# EAGLE library part M6260 (library pm6)
OKI engine control counter IC
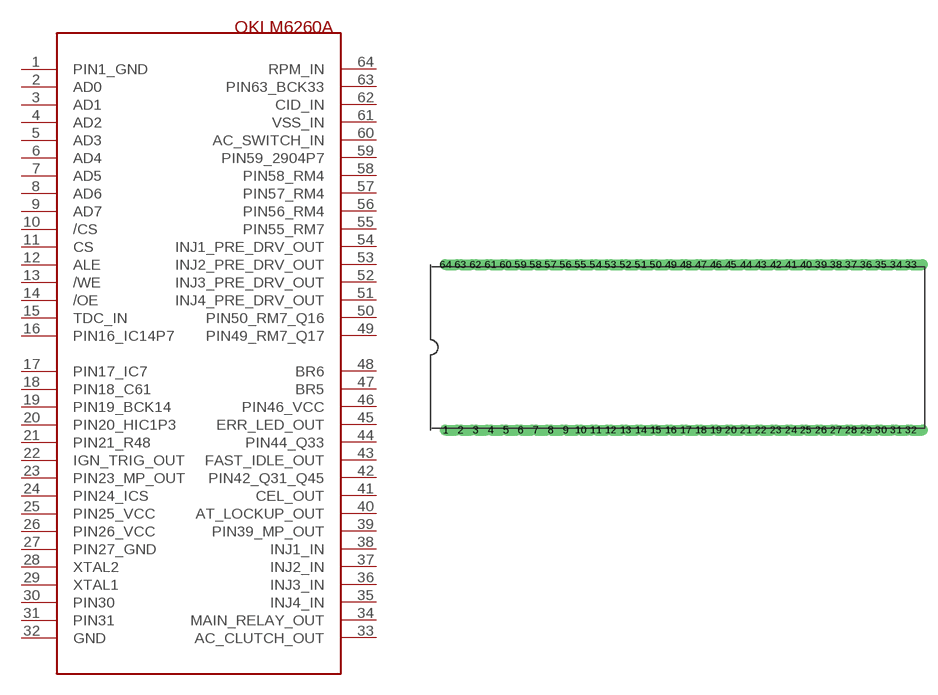
[diagram p2: symbol with the pads of C64-1; footprint C64-1]

Designator prefix -

## M6260  [C64-1]
1  PIN1_GND  pwr
2  AD0
3  AD1
4  AD2
5  AD3
6  AD4
7  AD5
8  AD6
9  AD7
10  /CS  in
11  CS  in
12  ALE  in
13  /WE  in
14  /OE  in
15  TDC_IN  in
16  PIN16_IC14P7
17  PIN17_IC7
18  PIN18_C61  in
19  PIN19_BCK14
20  PIN20_HIC1P3
21  PIN21_R48
22  IGN_TRIG_OUT  out
23  PIN23_MP_OUT  out
24  PIN24_ICS
25  PIN25_VCC  pwr
26  PIN26_VCC  pwr
27  PIN27_GND  pwr
28  XTAL2  in
29  XTAL1  in
30  PIN30
31  PIN31
32  GND  pwr
33  AC_CLUTCH_OUT  out
34  MAIN_RELAY_OUT  out
35  INJ4_IN  in
36  INJ3_IN  in
37  INJ2_IN  in
38  INJ1_IN  in
39  PIN39_MP_OUT  out
40  AT_LOCKUP_OUT  out
41  CEL_OUT  out
42  PIN42_Q31_Q45  out
43  FAST_IDLE_OUT  out
44  PIN44_Q33  out
45  ERR_LED_OUT  out
46  PIN46_VCC  pwr
47  BR5  in
48  BR6  in
49  PIN49_RM7_Q17
50  PIN50_RM7_Q16
51  INJ4_PRE_DRV_OUT  out
52  INJ3_PRE_DRV_OUT  out
53  INJ2_PRE_DRV_OUT  out
54  INJ1_PRE_DRV_OUT  out
55  PIN55_RM7  in
56  PIN56_RM4  in
57  PIN57_RM4  in
58  PIN58_RM4  in
59  PIN59_2904P7  in
60  AC_SWITCH_IN  in
61  VSS_IN  in
62  CID_IN  in
63  PIN63_BCK33
64  RPM_IN  in

## Footprint C64-1 (pad centres in mm)
Dual In Line
drill 0.813 offset: 1 -39.028,-8.87; 2 -37.254,-8.87; 3 -35.48,-8.87; 4 -33.706,-8.87; 5 -31.932,-8.87; 6 -30.158,-8.87; 7 -28.384,-8.87; 8 -26.61,-8.87; 9 -24.836,-8.87; 10 -23.062,-8.87; 11 -21.288,-8.87; 12 -19.514,-8.87; 13 -17.74,-8.87; 14 -15.966,-8.87; 15 -14.192,-8.87; 16 -12.418,-8.87; 17 -10.644,-8.87; 18 -8.87,-8.87; 19 -7.096,-8.87; 20 -5.322,-8.87; 21 -3.548,-8.87; 22 -1.774,-8.87; 23 0,-8.87; 24 1.774,-8.87; 25 3.548,-8.87; 26 5.322,-8.87; 27 7.096,-8.87; 28 8.87,-8.87; 29 10.644,-8.87; 30 12.418,-8.87; 31 14.192,-8.87; 32 15.966,-8.87; 33 15.966,10.644; 34 14.192,10.644; 35 12.418,10.644; 36 10.644,10.644; 37 8.87,10.644; 38 7.096,10.644; 39 5.322,10.644; 40 3.548,10.644; 41 1.774,10.644; 42 0,10.644; 43 -1.774,10.644; 44 -3.548,10.644; 45 -5.322,10.644; 46 -7.096,10.644; 47 -8.87,10.644; 48 -10.644,10.644; 49 -12.418,10.644; 50 -14.192,10.644; 51 -15.966,10.644; 52 -17.74,10.644; 53 -19.514,10.644; 54 -21.288,10.644; 55 -23.062,10.644; 56 -24.836,10.644; 57 -26.61,10.644; 58 -28.384,10.644; 59 -30.158,10.644; 60 -31.932,10.644; 61 -33.706,10.644; 62 -35.48,10.644; 63 -37.254,10.644; 64 -39.028,10.644